# EAGLE library part HEADER-2X10P (library Connector)
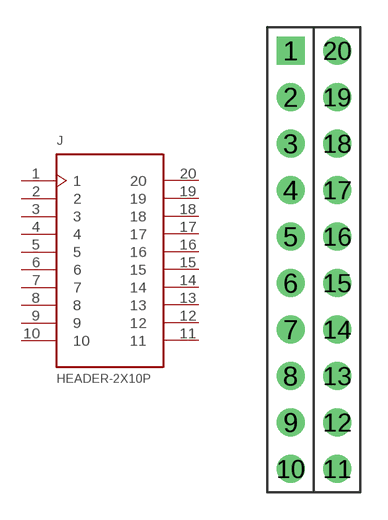
[diagram p10: symbol with the pads of 2X10P-2.54-DIP; footprint 2X10P-2.54-DIP]

Designator prefix J

## HEADER-2X10P-2.54  [2X10P-2.54-DIP]
1  1
2  2
3  3
4  4
5  5
6  6
7  7
8  8
9  9
10  10
11  11
12  12
13  13
14  14
15  15
16  16
17  17
18  18
19  19
20  20

## Footprint 2X10P-2.54-DIP (pad centres in mm)
drill 0.813 pad 1.524 square: 1 -1.27,11.43
drill 0.813 pad 1.524 round: 2 -1.27,8.89; 3 -1.27,6.35; 4 -1.27,3.81; 5 -1.27,1.27; 6 -1.27,-1.27; 7 -1.27,-3.81; 8 -1.27,-6.35; 9 -1.27,-8.89; 10 -1.27,-11.43; 11 1.27,-11.43; 12 1.27,-8.89; 13 1.27,-6.35; 14 1.27,-3.81; 15 1.27,-1.27; 16 1.27,1.27; 17 1.27,3.81; 18 1.27,6.35; 19 1.27,8.89; 20 1.27,11.43